# EAGLE library part GEN_12 (library bschulz)
Generic 12 Pin Package for Breakout Boards
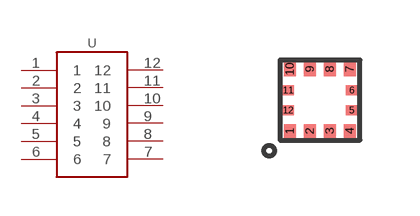
[diagram p149: symbol with the pads of LGA-12_2X2; footprint LGA-12_2X2]

Designator prefix U

## GEN_12LGA12_2X2  [LGA-12_2X2]
1  1
2  2
3  3
4  4
5  5
6  6
7  7
8  8
9  9
10  10
11  11
12  12

## Footprint LGA-12_2X2 (pad centres in mm)
LGA, 12 Pos, 2x2mm Datasheet <https://www.bosch-sensortec.com/media/boschsensortec/downloads/datasheets/bst-bma456-ds000.pdf>
smd 0.3 x 0.35: 1 -0.75,-0.775; 2 -0.25,-0.775; 3 0.25,-0.775; 4 0.75,-0.775; 7 0.75,0.775; 8 0.25,0.775; 9 -0.25,0.775; 10 -0.75,0.775
smd 0.3 x 0.25: 5 0.8,-0.25; 6 0.8,0.25; 11 -0.8,0.25; 12 -0.8,-0.25